# Altium footprint library Cuon day.PcbLib: 4 footprints
Each footprint in its own frame and in the unit in brackets; x right, y up, seen from the top. Pads: shape width x height; smd on the part's side, far side on the other; paste and mask are expansions set on the pad; w line width, h text height; cw(c..) or ccw(c..) is an arc to the next point about the centre after c.
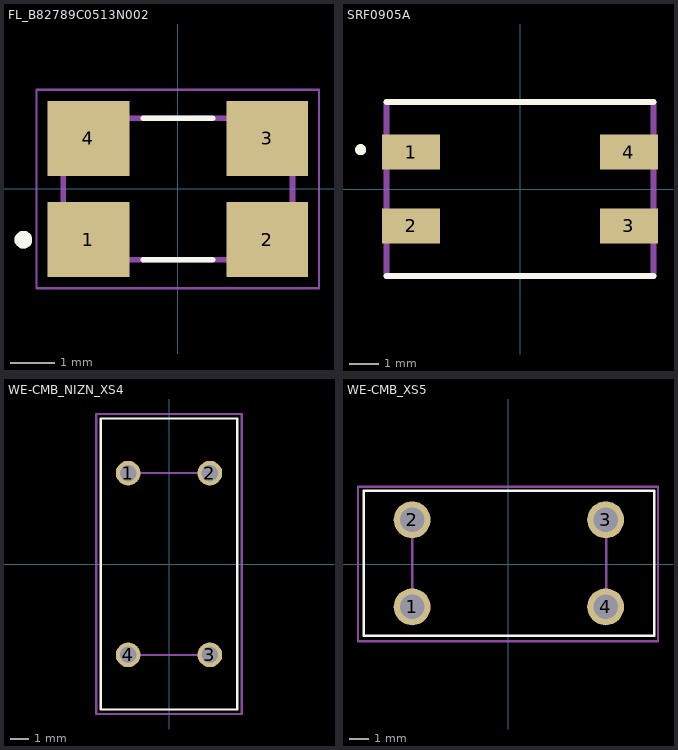
[diagram p0: the footprints below, top view; thin cyan lines are the x and y axes]

## FL_B82789C0513N002 [mm]
height 3
pads (4):
  rect 1.85x1.7 smd: 1(-2.025,-1.15) 2(2.025,-1.15) 3(2.025,1.15) 4(-2.025,1.15)
Top Overlay:
  circle w0.2: c-3.5,-1.15 r0.1
  lines w0.127: -0.787,-1.6 0.787,-1.6 ; -0.787,1.6 0.787,1.6
Mechanical 13:
  circle w0.2: c-3.5,-1.15 r0.1
  lines w0.127: -2.6,-1.6 2.6,-1.6 2.6,1.6 -2.6,1.6 -2.6,-1.6
Mechanical 15:
  lines w0.05: -3.2,-2.25 -3.2,2.25 3.2,2.25 3.2,-2.25 -3.2,-2.25
3D body "step_temp.STEP": height 3, standoff 0, extent -2.6,-1.6 2.6,1.6

## SRF0905A [mm]
pads (4):
  rect 2x1.2 smd: 1(-3.75,1.27) 2(-3.75,-1.27) 3(3.75,-1.27) 4(3.75,1.27)
Top Overlay:
  circle w0.2: c-5.486,1.353 r0.091
  lines w0.2: -4.6,-3 4.6,-3 ; -4.6,3 4.6,3
Mechanical 15:
  lines w0.2: -4.6,-3 -4.6,3 4.6,3 4.6,-3 -4.6,-3
3D body "SRF0905A-652Y.stp": height 5.4, standoff 0, extent -4.63,-3 4.63,3

## WE-CMB_NIZN_XS4 [mm]
pads (4):
  round 1.35 hole 0.9: 1(-2.25,5) 2(2.25,5) 3(2.25,-5) 4(-2.25,-5)
Top Overlay:
  lines w0.127: -3.75,-8 3.75,-8 3.75,8 -3.75,8 -3.75,-8
Mechanical 15:
  lines w0.127: -2,-5 2,-5 ; -2,5 2,5
Mechanical 20:
  lines w0.127: -4,-8.25 -4,8.25 4,8.25 4,-8.25 -4,-8.25

## WE-CMB_XS5 [mil]
pads (4):
  round 75 hole 50: 1(-195,-87.17) 2(-195,90) 3(198.7,90) 4(198.7,-87.17)
Top Overlay:
  lines w5: -293.43,-146.22 -293.43,149.06 297.13,149.06 297.13,-146.22 -293.43,-146.22
Mechanical 15:
  lines w5: -195,-87.17 -195,90 ; 199.49,89.61 199.49,-87.56 199.88,-87.56
Mechanical 20:
  lines w5: -305.12,-157.48 305.12,-157.48 305.12,157.48 -305.12,157.48 -305.12,-157.48